# EAGLE library part TPS2513 (library ee_projects)
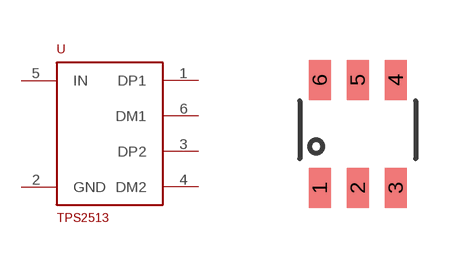
[diagram p16: symbol with the pads of DBV; footprint DBV]

Designator prefix -

## TPS2513  [DBV]
1  DP1
2  GND
3  DP2
4  DM2
5  IN
6  DM1

## Footprint DBV (pad centres in mm)
smd 0.55 x 1: 1 -0.95,0; 2 0,0; 3 0.95,0; 4 0.95,2.7; 5 0,2.7; 6 -0.95,2.7